# Altium footprint library Components.PcbLib: 163 footprints (part 10 of 11)
Each footprint in its own frame and in the unit in brackets; x right, y up, seen from the top. Pads: shape width x height; smd on the part's side, far side on the other; paste and mask are expansions set on the pad; w line width, h text height; cw(c..) or ccw(c..) is an arc to the next point about the centre after c.
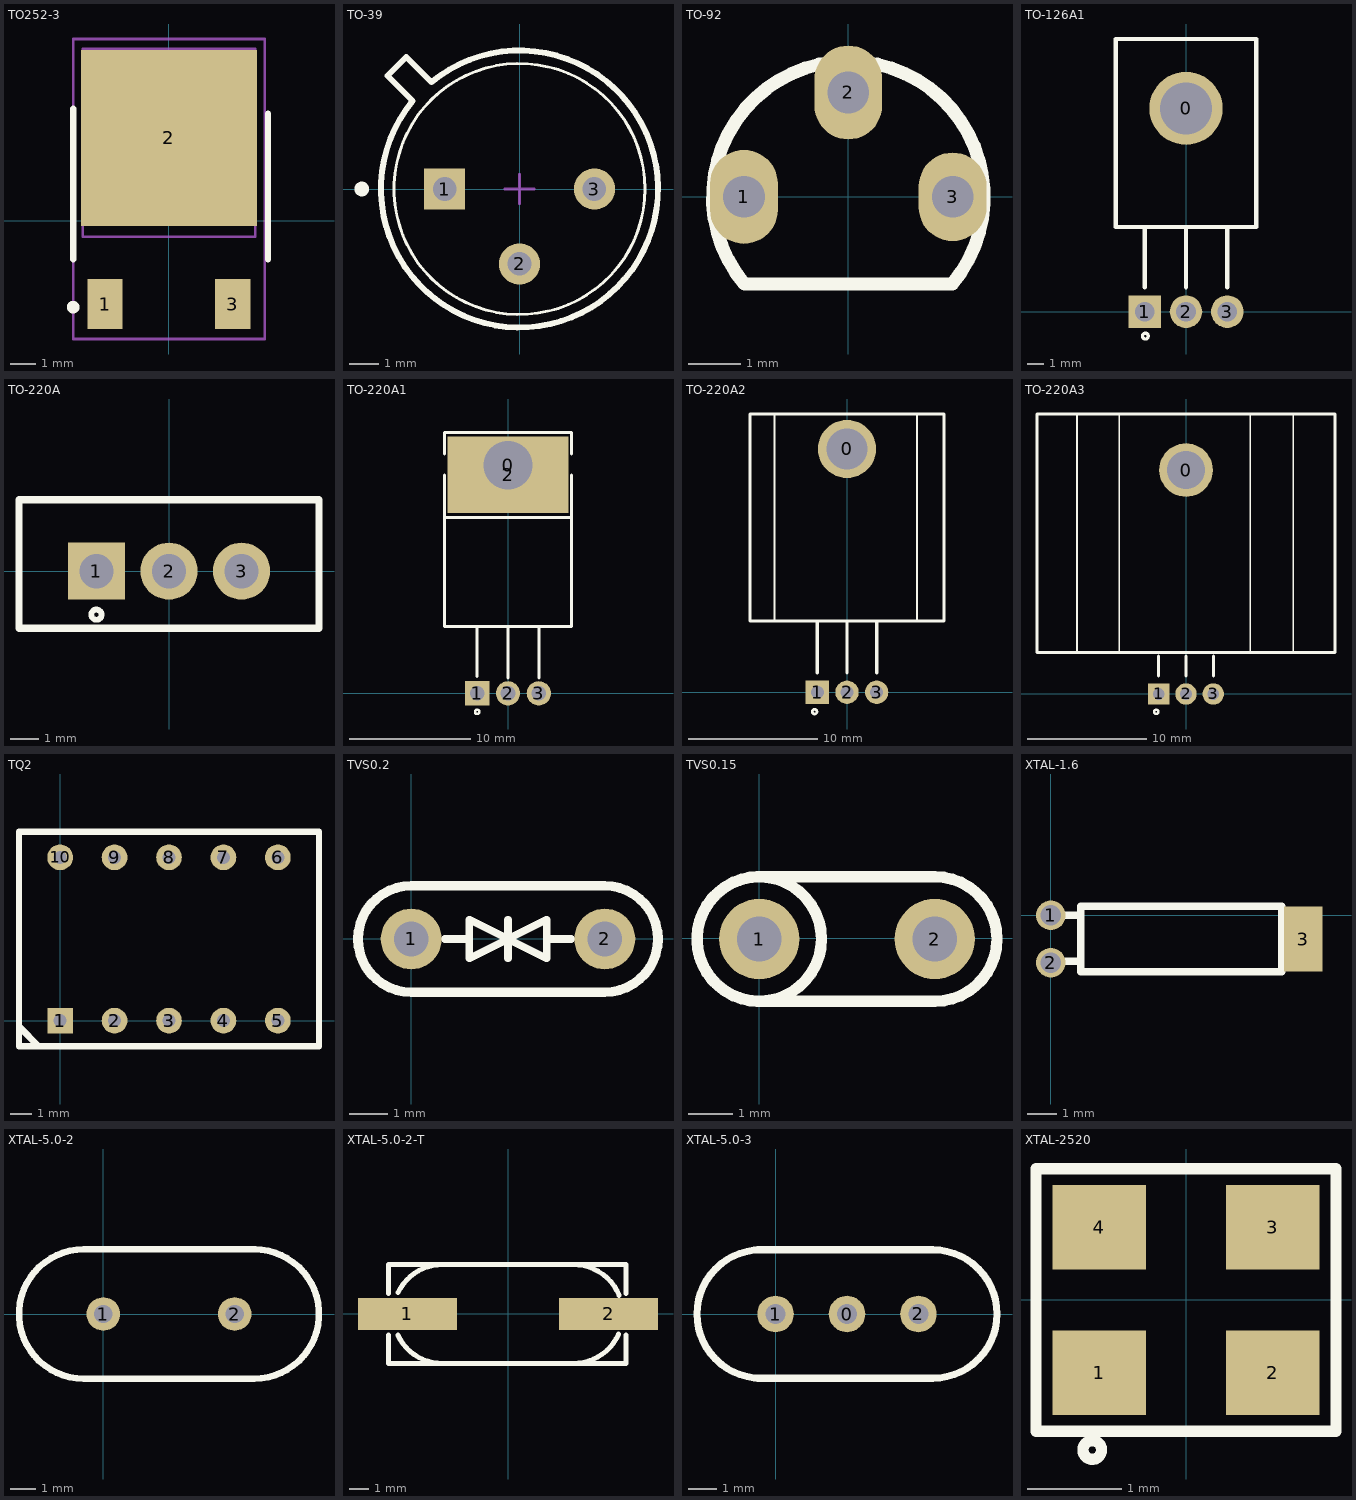
[diagram p9: the footprints below, top view; thin cyan lines are the x and y axes]

## TO252-3 [mm] "D2-PAK"
height 4.69
pads (3):
  rect 1.4x2 smd: 1(-2.54,-3.302) 3(2.54,-3.302)
  rect 7x7 smd: 2(0,3.302)
Top Overlay:
  circle w0.25: c-3.81,-3.427 r0.125
  lines w0.254: -3.81,-1.524 -3.81,4.467 ; 3.937,-1.524 3.937,4.267
Mechanical 13:
  lines w0.1: -3.429,-0.635 3.429,-0.635 3.429,6.858 -3.429,6.858 -3.429,-0.635
Mechanical 15:
  lines w0.1: -0.5,3.556 0.5,3.556 ; 0,3.056 0,4.056 ; -3.81,-4.694 3.81,-4.694 3.81,7.239 -3.81,7.239 -3.81,-4.694
3D body: height 2.39, standoff -0.02, extent -3.27,-3.81 3.27,6.128

## TO-39 [mm] "Can; 3 Leads; Pin Circle Dia. 5.08 mm; Lead Dia. 0.48 mm (max)"
height 4.55
pads (3):
  rect 1.4x1.4 hole 0.8: 1(-2.54,0)
  round 1.4 hole 0.8: 2(0,-2.54) 3(2.54,0)
Top Overlay:
  circle w0.25: c-5.35,0 r0.125
  circle w0.1: c0,0 r4.255
  lines w0.2: -3.626,2.99 -4.475,3.838 -3.838,4.475 -2.99,3.626 ; -3.622,2.987 ccw(c0,0) -2.987,3.622
Mechanical 15:
  lines w0.1: -0.5,0 0.5,0 ; 0,-0.5 0,0.5

## TO-92 [mm]
pads (3):
  oval 1.3x1.8 hole 0.8: 1(-2,0) 2(0,2)
  oval 1.3x1.7 hole 0.8: 3(2,0)
Top Overlay:
  lines w0.254: -1.992,-1.671 cw(c0,0) 1.992,-1.671 -1.992,-1.671

## TO-126A1 [mm]
height 4.5
pads (4):
  round 4.5 hole 3.2: 0(0,12.5)
  rect 2x2 hole 1.2: 1(-2.54,0)
  round 2 hole 1.2: 2(0,0) 3(2.54,0)
Top Overlay:
  circle w0.2: c-2.5,-1.5 r0.18
  lines w0.254: -2.54,1.5 -2.54,5.08 ; 0,1.5 0,5.207 ; 2.54,1.5 2.54,5.207 ; -4.318,5.207 4.318,5.207 4.318,16.764 -4.318,16.764 -4.318,5.207

## TO-220A [mm]
height 4.5
pads (3):
  rect 2x2 hole 1.2: 1(-2.54,0)
  round 2 hole 1.2: 2(0,0) 3(2.54,0)
Top Overlay:
  circle w0.2: c-2.54,-1.524 r0.18
  lines w0.254: -5.25,-2 -5.25,2.5 5.25,2.5 5.25,-2 -5.25,-2

## TO-220A1 [mm]
height 4.5
pads (5):
  round 4 hole 4: 0(0,18.796)
  rect 2x2 hole 1.2: 1(-2.54,0)
  round 2 hole 1.2: 2(0,0) 3(2.54,0)
  rect 10x6.3 smd: 2(0,18.034)
Top Overlay:
  circle w0.2: c-2.54,-1.524 r0.18
  lines w0.254: -5.25,14.5 5.25,14.5 ; -5.25,18 -5.25,5.5 5.25,5.5 5.25,18 ; -5.25,19.728 -5.25,21.5 5.25,21.5 5.25,19.728 ; -2.54,1.397 -2.54,5.5 ; 0,1.27 0,5.5 ; 2.54,1.27 2.54,5.373

## TO-220A2 [mm]
height 4.5
pads (4):
  round 4.5 hole 3.2: 0(0,18.796)
  rect 1.8x1.8 hole 1: 1(-2.29,0)
  round 1.8 hole 1: 2(0,0) 3(2.29,0)
Top Overlay:
  circle w0.2: c-2.5,-1.5 r0.18
  lines w0.152: -5.6,5.6 -5.6,21.5 ; 5.4,5.5 5.4,21.5
  lines w0.254: -2.29,1.5 -2.29,5.5 ; 0,1.5 0,5.5 ; 2.29,1.5 2.29,5.373 ; -7.5,5.5 7.5,5.5 7.5,21.5 -7.5,21.5 -7.5,5.5

## TO-220A3 [mm]
height 4.5
pads (4):
  round 4.5 hole 3.2: 0(0,18.796)
  rect 1.8x1.8 hole 1: 1(-2.29,0)
  round 1.8 hole 1: 2(0,0) 3(2.29,0)
Top Overlay:
  circle w0.2: c-2.5,-1.5 r0.18
  lines w0.152: -9.156,3.5 -9.156,23.5 ; -5.6,3.5 -5.6,23.5 ; 5.4,3.5 5.4,23.5 ; 9.005,3.5 9.005,23.5
  lines w0.254: -2.29,1.5 -2.29,3.175 ; 0,1.5 0,3.175 ; 2.29,1.5 2.29,3.175 ; -12.5,3.5 -12.5,23.5 12.5,23.5 12.5,3.5 -12.5,3.5

## TQ2 [mm]
pads (10):
  rect 1.2x1.2 hole 0.6: 1(0,0)
  round 1.2 hole 0.6: 2(2.54,0) 3(5.08,0) 4(7.62,0) 5(10.16,0) 6(10.16,7.62) 7(7.62,7.62) 8(5.08,7.62) 9(2.54,7.62) 10(0,7.62)
Top Overlay:
  lines w0.152: -1.92,-0.3 -1.9,-0.3 ; -1.01,-1.19 -1,-1.19 -1,-1.12
  lines w0.3: -1.9,-0.3 -1.01,-1.19 ; -1.92,-1.19 -1.92,8.81 12.08,8.81 12.08,-1.19 -1.92,-1.19
Bottom Overlay:
  circle w0.2: c7.62,2.286 r0.284
  circle w0.2: c5.08,2.286 r0.284
  circle w0.2: c2.54,2.286 r0.284
  circle w0.2: c7.62,5.334 r0.284
  circle w0.2: c5.08,5.334 r0.284
  circle w0.2: c2.54,5.334 r0.284
  lines w0.2: 0,1.016 0,1.905 ; 0,5.715 0,6.604 ; 2.54,1.016 2.54,1.905 ; 2.54,2.667 5.08,2.667 7.62,3.429 ; 2.54,4.953 5.08,4.953 7.62,4.191 ; 2.54,5.715 2.54,6.604 ; 5.08,1.016 5.08,1.905 ; 5.08,5.715 5.08,6.604 ; 7.62,1.016 7.62,1.905 ; 7.62,5.715 7.62,6.604 ; -0.635,1.905 -0.635,5.715 0.635,5.715 0.635,1.905 -0.635,1.905

## TVS0.2 [mm]
pads (2):
  round 1.6 hole 0.914: 1(-0.001,-0.011) 2(5.079,-0.011)
Top Overlay:
  lines w0.203: 0.888,-0.011 1.523,-0.011 ; 2.539,-0.519 2.539,0.497 ; 3.555,-0.011 4.19,-0.011 ; 1.523,-0.519 3.555,0.497 3.555,-0.519 1.523,0.497 1.523,-0.519
  lines w0.254: -0.001,-1.408 cw(c-0.001,-0.011) -0.001,1.386 5.079,1.386 cw(c5.079,-0.011) 5.079,-1.408 -0.001,-1.408

## TVS0.15 [mm]
pads (2):
  round 1.8 hole 1: 1(0,-0.013) 2(3.937,-0.013)
Top Overlay:
  circle w0.254: c0,-0.013 r1.395
  lines w0.254: 0,-1.41 cw(c0,-0.013) 0,1.384 3.937,1.384 cw(c3.937,-0.013) 3.937,-1.41 0,-1.41

## XTAL-1.6 [mm] "small 32.768kHz"
pads (3):
  round 1 hole 0.7: 1(0,0) 2(0,-1.6)
  rect 1.3x2.2 smd: 3(8.544,-0.8)
Top Overlay:
  lines w0.254: 0.508,-1.554 1.016,-1.554 ; 0.508,0 1.016,0 ; 1.016,-1.9 7.804,-1.9 7.804,0.3 1.016,0.3 1.016,-1.9

## XTAL-5.0-2 [mm] "two hole xtal"
pads (2):
  round 1.3 hole 0.711: 1(0,0) 2(5.08,0)
Top Overlay:
  lines w0.254: -0.762,2.5 ccw(c-0.762,0) -0.762,-2.5 5.842,-2.5 ccw(c5.842,0) 5.842,2.5 ; -0.762,2.5 5.882,2.5

## XTAL-5.0-2-T [mm] "two xtal"
pads (2):
  rect 5x1.6 smd: 1(-5.08,0) 2(5.08,0)
Top Overlay:
  lines w0.254: -6.04,-1.06 -6.04,-2.5 5.96,-2.5 5.96,-1.06 ; -6.04,1.04 -6.04,2.5 5.96,2.5 5.96,1.04 ; -5.569,-1.063 ccw(c-3.314,-0.012) -3.314,-2.5 3.302,-2.5 ccw(c3.302,0) 5.586,-1.017 ; -5.559,1.076 cw(c-3.302,0) -3.302,2.5 3.302,2.5 ; 3.302,2.5 cw(c3.302,0) 5.616,0.947

## XTAL-5.0-3 [mm]
pads (3):
  round 1.3 hole 0.7: 0(2.54,0) 1(0,0) 2(5.08,0)
Top Overlay:
  lines w0.244: 5.588,2.286 cw(c5.588,0) 7.874,0
  lines w0.254: -0.635,-2.286 5.588,-2.286 ; -0.635,2.286 5.588,2.286 ; 7.874,0 cw(c5.588,0) 5.588,-2.286 ; -0.508,-2.286 cw(c-0.508,0) -2.794,0 cw(c-0.508,0) -0.508,2.286 ; -0.508,-2.286 cw(c-0.508,0) -0.508,2.286 ; -0.508,-2.286 5.588,-2.286 ; -0.508,2.286 5.588,2.286 ; 5.588,-2.286 ccw(c5.588,0) 5.588,2.286

## XTAL-2520 [mm] "SMD 4 pin 25*20"
pads (4):
  rect 1x0.9 smd: 1(-0.925,-0.775) 2(0.925,-0.775) 3(0.925,0.775) 4(-0.925,0.775)
Top Overlay:
  circle w0.12: c-1,-1.6 r0.1
  lines w0.12: -1.6,-1.4 1.6,-1.4 1.6,1.4 -1.6,1.4 -1.6,-1.4